# EAGLE library part 74LVX3245WM (library Fairchild_By_element14_Batch_1)
8 - bit Dual Supply Translating Receiver with 3 state outputs
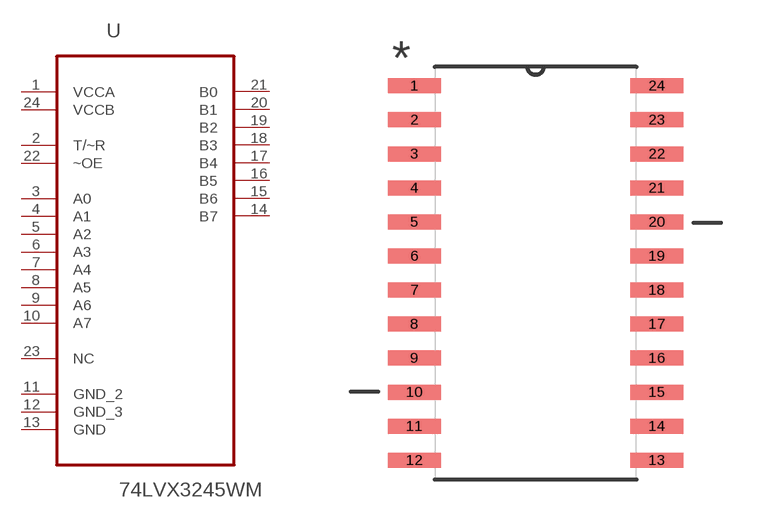
[diagram p114: symbol with the pads of SOIC127P1032X265-24N; footprint SOIC127P1032X265-24N]

Designator prefix U

## 74LVX3245WM (MPN: 74LVX3245WM; OC_FARNELL: 1014094; OC_NEWARK: 78K6350; PACKAGE: SOIC-24; SUPPLIER: Fairchild Semiconductor)  [SOIC127P1032X265-24N]
1  VCCA  pwr
2  T/~R  in
3  A0
4  A1
5  A2
6  A3
7  A4
8  A5
9  A6
10  A7
11  GND_2  pas
12  GND_3  pas
13  GND  pas
14  B7
15  B6
16  B5
17  B4
18  B3
19  B2
20  B1
21  B0
22  ~OE  in
23  NC  nc
24  VCCB  pwr

## Footprint SOIC127P1032X265-24N (pad centres in mm)
smd 1.981 x 0.559: 1 -4.521,6.985; 2 -4.521,5.715; 3 -4.521,4.445; 4 -4.521,3.175; 5 -4.521,1.905; 6 -4.521,0.635; 7 -4.521,-0.635; 8 -4.521,-1.905; 9 -4.521,-3.175; 10 -4.521,-4.445; 11 -4.521,-5.715; 12 -4.521,-6.985; 13 4.521,-6.985; 14 4.521,-5.715; 15 4.521,-4.445; 16 4.521,-3.175; 17 4.521,-1.905; 18 4.521,-0.635; 19 4.521,0.635; 20 4.521,1.905; 21 4.521,3.175; 22 4.521,4.445; 23 4.521,5.715; 24 4.521,6.985